# Altium schematic symbol library Memory_Flash.SchLib: 3 symbols
Pins are listed as number, name and electrical type; pins without a type are passive.

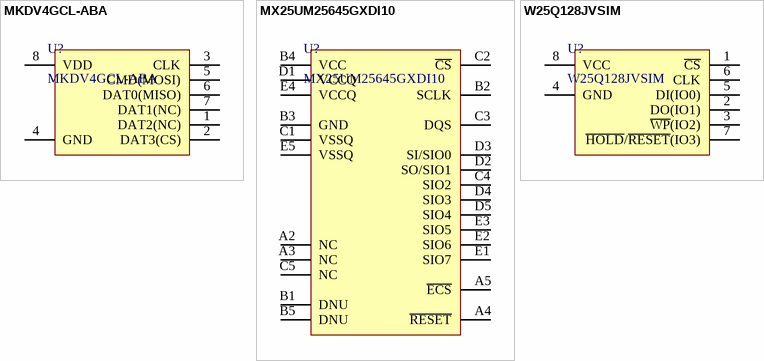
[diagram p0: symbols MKDV4GCL-ABA to W25Q128JVSIM]

## MKDV4GCL-ABA
designator U?
SD NAND Flash, 3.3V, 4bits, 4Gb
footprint LGA-8_8x6mm_P1.27mm
pins: 1 DAT2(NC), 2 DAT3(CS), 3 CLK, 4 GND, 5 CMD(MOSI), 6 DAT0(MISO), 7 DAT1(NC), 8 VDD

## MX25UM25645GXDI10
designator U?
Serial NOR Flash, 1.8V, 8bits, 256Mb
footprint BGA-24_6x8mm_P1.0mm
pins: A2 NC, A3 NC, A4 ~{RESET}, A5 ~{ECS}, B1 DNU, B2 SCLK, B3 GND, B4 VCC, B5 DNU, C1 VSSQ, C2 ~{CS}, C3 DQS, C4 SIO2, C5 NC, D1 VCCQ, D2 SO/SIO1, D3 SI/SIO0, D4 SIO3, D5 SIO4, E1 SIO7, E2 SIO6, E3 SIO5, E4 VCCQ, E5 VSSQ

## W25Q128JVSIM
designator U?
Serial NOR Flash, 2.7V to 3.6V, 4bits, 128Mb
footprint SOIC-8_5.275x5.275mm_P1.27mm
pins: 1 ~{CS}, 2 DO(IO1), 3 ~{WP}(IO2), 4 GND, 5 DI(IO0), 6 CLK, 7 ~{HOLD}/~{RESET}(IO3), 8 VCC